# Altium schematic symbol library IRF7910-SO8.SchLib: 1 symbol
Pins are listed as number, name and electrical type; pins without a type are passive.

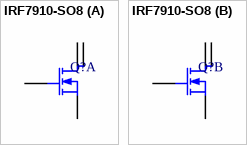
[diagram p0: symbol IRF7910-SO8]

## IRF7910-SO8
designator Q?  (value not drawn)
part A pins: 1 S, 2 G, 7 D, 8 D
part B pins: 3 S, 4 G, 5 D, 6 D